# Altium integrated library 可控硅.IntLib: 6 symbols
Pins are listed as number, name and electrical type; pins without a type are passive.

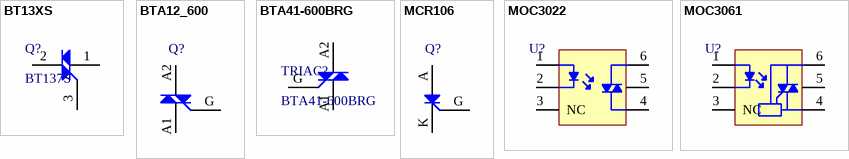
[diagram p0: symbols BT13XS to MOC3061]

## BT13XS
designator Q?, comment BT137S
双向可控硅
footprint TO252 (252晶体管)
pins: 1 A1, 2 A2, 3 G

## BTA12_600
designator Q?
双向可控硅
footprint TO263
pins: A1, A2, G

## BTA41-600BRG
designator TRIAC?
800 V and 600 V, 40 A standard Triacs in TOP3 package; Vendor: STMicroelectronics; Built_By: EMA_UL_Team; SourceLibrary: Updates_to_database_2020-11-02; Manufacturer_Part_Number: BTA41-600BRG; Copyright: Copyright (C) 2018 Accelerated Designs. All rights reserved; RefDes: RefDes; Type: DEV
footprint TOP3_STM
pins: A1, A2, G

## MCR106
designator Q?
单向可控硅
footprint TO126 (126晶体管)
pins: A, G, K

## MOC3022
designator U?
光可控硅
footprint DIP6
footprint DIP6_SS (DIP6-SMD Socket)
pins: 1 +, 2 -, 3 NC, 4, 5, 6

## MOC3061
designator U?
零点触发光可控硅
footprint DIP6
footprint DIP6_SS (DIP6-SMD Socket)
pins: 1 +, 2 -, 3 NC, 4, 5, 6